# Altium footprint library 素材库.PcbLib: 24 footprints (part 1 of 2)
Each footprint in its own frame and in the unit in brackets; x right, y up, seen from the top. Pads: shape width x height; smd on the part's side, far side on the other; paste and mask are expansions set on the pad; w line width, h text height; cw(c..) or ccw(c..) is an arc to the next point about the centre after c.
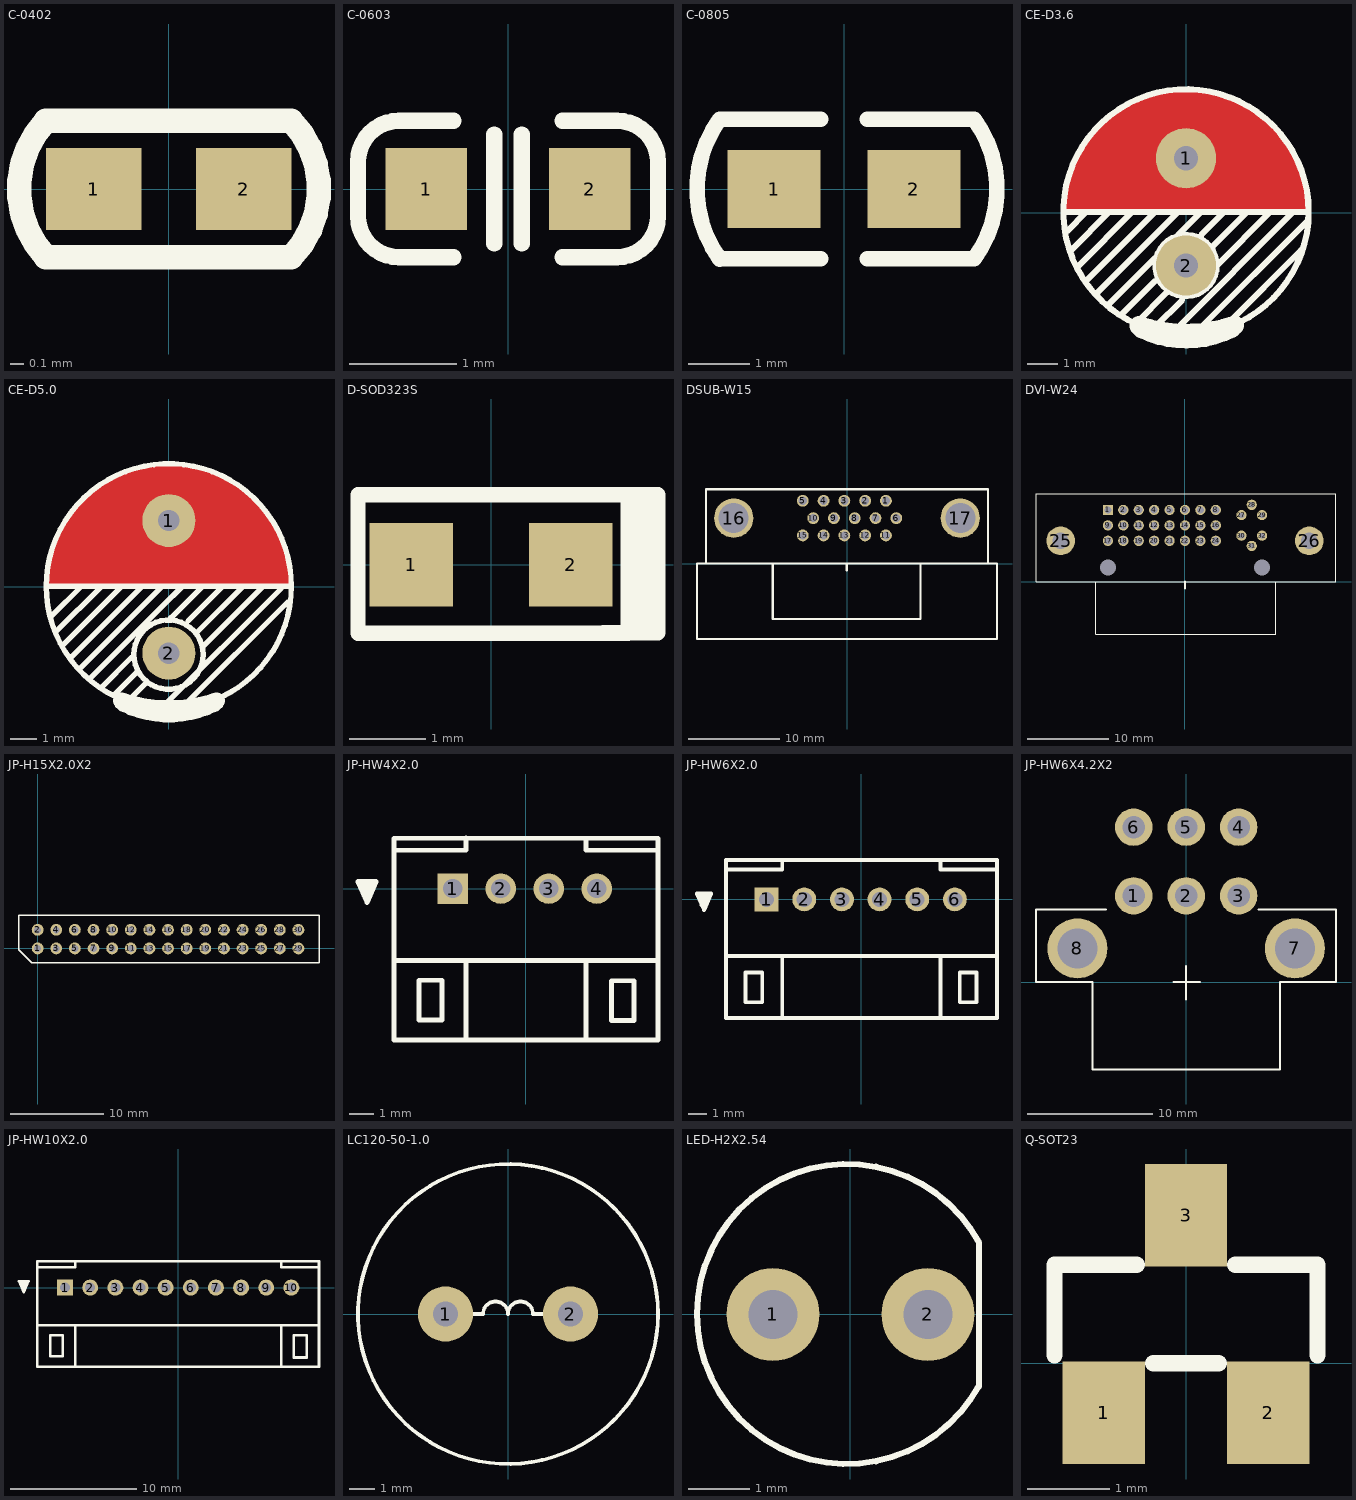
[diagram p0: the footprints below, top view; thin cyan lines are the x and y axes]

## C-0402 [mm]
pads (2):
  rect 0.7x0.6 smd: 1(-0.55,0) 2(0.55,0)
Top Overlay:
  lines w0.178: -0.9,-0.5 cw(c-0.364,0) -0.9,0.5 0.9,0.5 cw(c0.388,0) 0.9,-0.5 -0.9,-0.5

## C-0603 [mil]
pads (2):
  rect 30x30 smd: 1(-30,0) 2(30,0)
Top Overlay:
  lines w6: -20,-25 -40,-25 cw(c-40,-10) -55,-10 -55,10 cw(c-40,10) -40,25 -20,25 ; -5,-20 -5,20 ; 5,-20 5,20 ; 20,-25 40,-25 ccw(c40,-10) 55,-10 55,10 ccw(c40,10) 40,25 20,25

## C-0805 [mil]
pads (2):
  rect 60x50 smd: 1(-45,0) 2(45,0)
Top Overlay:
  lines w10: -80.04,44.95 ccw(c-17.72,0) -79.96,-45.06 ; -80,-45 -15,-45 ; -80,45 -15,45 ; 15,-45 83.58,-45 ccw(c22.58,0) 83.59,44.99 15,45

## CE-D3.6 [mm]
pads (2):
  round 2 / inner round 1.524 / far side round 1.524 hole 0.8: 1(0,1.8) 2(0,-1.756)
Top Layer:
  pour cut-out: -4.061,0.161 -4.021,0.67 -3.872,1.291 -3.627,1.881 -3.294,2.426 -2.879,2.911 -2.393,3.326 -1.848,3.66 -1.258,3.904 -0.637,4.053 0,4.104 0.636,4.053 1.258,3.904 1.848,3.66 2.392,3.326 2.878,2.911 3.293,2.426 3.627,1.881 3.871,1.291 4.02,0.67 4.06,0.161 4.056,0.161 4.056,0.014 -4.056,0.014 -4.056,0.161
Top Overlay:
  circle w0.203: c0,0.022 r4.064
  circle w0.203: c0,-1.756 r1.016
  lines w0.203: -4.064,0.022 4.064,0.022 ; -3.937,-0.613 -3.302,0.022 ; -3.81,-1.248 -2.54,0.022 ; -3.556,-1.756 -1.778,0.022 ; -3.302,-2.264 -1.016,0.022 ; -2.921,-2.645 -0.254,0.022 ; -2.54,-3.026 -1.016,-1.502 ; -2.159,-3.407 -1.016,-2.264 ; -1.651,-3.661 -0.635,-2.645 ; -1.016,-3.788 -0.127,-2.899 ; -0.381,-3.915 3.556,0.022 ; -0.254,-0.74 0.508,0.022 ; 0.381,-3.915 4.064,-0.232 ; 0.508,-0.74 1.27,0.022 ; 0.889,-1.121 2.032,0.022 ; 1.016,-1.756 2.794,0.022 ; 1.397,-3.661 3.81,-1.248
  lines w0.635: -1.559,-3.75 -1.459,-3.85 ; -1.556,-3.751 ccw(c0,0.872) 1.604,-3.734 ; -1.46,-3.849 ccw(c0.006,-0.868) 1.499,-3.836 ; 1.501,-3.835 1.601,-3.735

## CE-D5.0 [mm]
pads (2):
  round 2 / inner round 1.524 / far side round 1.524 hole 0.8: 1(0,2.5) 2(0,-2.5)
Top Layer:
  pour cut-out: -4.656,0.099 -4.622,0.608 -4.504,1.205 -4.308,1.781 -4.039,2.326 -3.701,2.832 -3.3,3.289 -2.843,3.69 -2.337,4.028 -1.792,4.297 -1.216,4.493 -0.619,4.611 -0.012,4.651 0.595,4.611 1.191,4.493 1.767,4.297 2.313,4.028 2.818,3.69 3.276,3.289 3.677,2.832 4.015,2.326 4.284,1.781 4.479,1.205 4.598,0.608 4.631,0.099 4.627,0.097 4.627,0.009 -4.651,0.009 -4.651,0.097
Top Overlay:
  circle w0.203: c0,0.022 r4.624
  circle w0.203: c-0.011,-2.555 r1.306
  lines w0.203: -4.548,0.022 4.501,0.022 ; -4.408,-1.084 -3.302,0.022 ; -4.269,-1.707 -2.54,0.022 ; -3.973,-2.173 -1.778,0.022 ; -3.677,-2.639 -1.016,0.022 ; -3.332,-3.056 -0.254,0.022 ; -2.951,-3.437 0.346,-0.14 ; -2.52,-3.768 -1.417,-2.665 ; -2.033,-4.042 -1.251,-3.261 ; -1.438,-4.21 -0.858,-3.63 ; -0.254,-0.74 0.508,0.022 ; -0.192,-4.488 4.225,-0.071 ; 0.08,-1.168 1.27,0.022 ; 0.594,-4.464 4.478,-0.58 ; 0.723,-1.287 2.032,0.022 ; 1.016,-1.756 2.794,0.022 ; 1.301,-2.233 3.556,0.022
  lines w0.635: -1.696,-4.394 ccw(c0.007,-0.978) 1.704,-4.397 ; -1.693,-4.395 -1.793,-4.295 ccw(c0.007,0.962) 1.807,-4.295 1.707,-4.395

## D-SOD323S [mm]
pads (2):
  rect 1.1x1.1 smd: 1(-1.05,0) 2(1.05,0)
Top Overlay:
  lines w0.203: 1.27,0.919 2.2,0.919 2.2,-0.898 1.482,-0.898 ; 1.816,-0.844 1.816,0.905 ; 2.01,-0.836 2.01,0.874 ; -1.752,-0.901 -1.752,0.919 1.806,0.919 1.806,-0.901 -1.752,-0.901

## DSUB-W15 [mm]
pads (17):
  round 1.3 hole 0.9: 1(4.28,6.9) 2(1.994,6.9) 3(-0.292,6.9) 4(-2.578,6.9) 5(-4.864,6.9) 6(5.423,4.995) 7(3.137,4.995) 8(0.851,4.995) 9(-1.435,4.995) 10(-3.721,4.995) 11(4.28,3.09) 12(1.994,3.09) 13(-0.292,3.09) 14(-2.578,3.09) 15(-4.864,3.09)
  round 4.318 hole 3.302 mask+1.016: 16(-12.459,4.995) 17(12.459,4.995)
Top Overlay:
  lines w0.25: -0.015,-0.732 -0.015,-0.022
  lines w0.254: -16.5,-8.3 16.5,-8.3 16.5,0 -16.5,0 -16.5,-8.3 ; -15.507,0 -15.507,8.17 15.507,8.17 15.507,0 -15.507,0 ; -8.166,-6.1 8.09,-6.1 8.09,0 -8.166,0 -8.166,-6.1
Bottom Overlay:
  region: -6.6,8.2 7.1,8.2 7.1,2 -6.6,2

## DVI-W24 [mil]
pads (34):
  rect 50x50 hole 35: 1(-375,350)
  round 50 hole 35: 2(-300,350) 3(-225,350) 4(-150,350) 5(-75,350) 6(0,350) 7(75,350) 8(150,350) 9(-375,275) 10(-300,275) 11(-225,275) 12(-150,275) 13(-75,275) 14(0,275) 15(75,275) 16(150,275) 17(-375,200) 18(-300,200) 19(-225,200) 20(-150,200) 21(-75,200) 22(0,200) 23(75,200) 24(150,200)
  round 140 hole 78.74: 25(-605,200) 26(605,200)
  round 50 / inner round 60 / far side round 60 hole 27: 27(275,325) 28(325,375) 29(375,325) 30(275,225) 31(325,175) 32(375,225)
  round 0 hole 78.74 unplated: 33(-375,70) 34(375,70)
Top Overlay:
  lines w5.51: -725,0 -725,430 735,430 735,0 -725,0
  lines w6: -433.07,0 -433.07,-255.91 440.94,-255.91 440.94,0
  lines w9.84: -0.47,-32.63 -0.47,2.65

## JP-H15X2.0X2 [mm]
pads (30):
  round 1.27 hole 0.75 mask+0.127: 1(0,0) 2(0,2) 3(2,0) 4(2,2) 5(4,0) 6(4,2) 7(6,0) 8(6,2) 9(8,0) 10(8,2) 11(10,0) 12(10,2) 13(12,0) 14(12,2) 15(14,0) 16(14,2) 17(16,0) 18(16,2) 19(18,0) 20(18,2) 21(20,0) 22(20,2) 23(22,0) 24(22,2) 25(24,0) 26(24,2) 27(26,0) 28(26,2) 29(28,0) 30(28,2)
Top Overlay:
  lines w0.14: -2,-0.134 -0.61,-1.524 30.21,-1.524 30.21,3.556 -2,3.556 -2,-0.134
Bottom Overlay:
  region: -0.9,2.8 28.8,2.8 28.8,-0.9 -0.9,-0.9
  lines w0.55: -0.895,2.705 -0.895,-0.89 28.92,-0.89 28.92,2.908 -0.847,2.908 -0.847,2.575 ; -0.851,1.002 28.858,1.002 ; 0.988,-0.822 0.988,2.807 ; 3.006,-0.807 3.006,2.822 ; 5.04,-0.836 5.04,2.793 ; 7.015,-0.822 7.015,2.807 ; 9.02,-0.807 9.02,2.822 ; 10.995,-0.807 10.995,2.822 ; 13.051,-0.807 13.051,2.822 ; 15.025,-0.821 15.025,2.808 ; 17.041,-0.821 17.041,2.808 ; 19.007,-0.835 19.007,2.794 ; 20.979,-0.821 20.979,2.808 ; 22.986,-0.83 22.986,2.799 ; 25.007,-0.83 25.007,2.799 ; 26.97,-0.834 26.97,2.795

## JP-HW4X2.0 [mm]
pads (4):
  rect 1.27x1.27 hole 0.8: 1(-3.048,0)
  round 1.27 hole 0.8: 2(-1.048,0) 3(0.952,0) 4(2.952,0)
Top Overlay:
  lines w0.203: -6.879,0.152 -6.471,0.152 ; -6.828,0.064 -6.828,0.217 ; -6.756,-0.297 -6.528,-0.297 ; -5.495,-3 5.494,-3 ; -5.491,1.6 -2.498,1.6 ; -4.748,-6.3 4.552,-6.3 ; -4.456,-3.817 -4.456,-5.477 -3.507,-5.477 -3.507,-3.818 -4.435,-3.818 ; -2.5,1.606 -2.5,2.102 ; 2.5,1.607 2.5,2.088 ; 2.517,1.6 5.5,1.6 ; 3.558,-3.838 3.558,-5.498 4.507,-5.498 4.507,-3.84 3.579,-3.84 ; -6.706,-0.203 -6.706,0.305 ; -6.706,-0.203 -6.706,0.051 -6.452,0.051 ; -6.706,-0.203 -6.452,-0.203 -6.452,0.051 ; -6.706,-0.203 -6.452,0.051 ; -6.706,0.305 -6.452,0.305 ; -6.706,0.305 -6.452,0.305 ; -6.621,-0.577 -6.242,0.305 -6.999,0.305 -6.621,-0.576 ; -6.621,-0.576 -6.621,-0.576 ; -6.621,-0.577 -6.621,-0.576 ; -6.452,0.051 -6.452,0.305 ; -6.452,0.051 -6.452,0.305 ; -5.5,-6.3 -2.5,-6.3 -2.5,-3 2.5,-3 2.5,-6.3 5.5,-6.3 5.5,2.1 -5.5,2.1 -5.5,-6.3
Bottom Overlay:
  region: -4.1,1.4 3.8,1.4 3.8,-1.4 -4.1,-1.4
  lines w0.4: -4.05,1.36 -4.05,-1.57 3.81,-1.57 3.81,1.41 -3.89,1.41
  lines w0.5: -2.053,-1.44 -2.053,1.3
  lines w0.55: -0.011,-1.44 -0.011,1.27 ; 1.945,-1.49 1.945,1.26

## JP-HW6X2.0 [mm]
pads (6):
  rect 1.27x1.27 hole 0.8: 1(-5.035,0.006)
  round 1.27 hole 0.8: 2(-3.035,0.006) 3(-1.035,0.006) 4(0.965,0.006) 5(2.965,0.006) 6(4.965,0.006)
Top Overlay:
  lines w0.203: -8.612,0.158 -8.204,0.158 ; -8.561,0.07 -8.561,0.223 ; -8.49,-0.291 -8.261,-0.291 ; -7.203,1.6 -4.202,1.6 ; -7.188,-3 7.195,-3 ; -6.735,-6.3 7.203,-6.3 ; -6.161,-3.876 -5.271,-3.876 -5.271,-5.456 -6.16,-5.456 -6.16,-3.886 ; -4.2,1.604 -4.2,2.093 ; 4.2,1.61 4.2,2.094 ; 4.208,1.6 7.196,1.6 ; 5.223,-3.88 6.114,-3.88 6.114,-5.46 5.225,-5.46 5.225,-3.89 ; -8.439,-0.197 -8.439,0.311 ; -8.439,-0.197 -8.439,0.057 -8.185,0.057 ; -8.439,-0.197 -8.185,-0.197 -8.185,0.057 ; -8.439,-0.197 -8.185,0.057 ; -8.439,0.311 -8.185,0.311 ; -8.439,0.311 -8.185,0.311 ; -8.354,-0.571 -7.975,0.311 -8.732,0.311 -8.354,-0.57 ; -8.354,-0.57 -8.354,-0.57 ; -8.354,-0.571 -8.354,-0.57 ; -8.185,0.057 -8.185,0.311 ; -8.185,0.057 -8.185,0.311 ; -7.2,-6.3 -4.2,-6.3 -4.2,-3 4.2,-3 4.2,-6.3 7.2,-6.3 7.2,2.1 -7.2,2.1 -7.2,-6.3
Bottom Overlay:
  region: -6.3,1.208 6.4,1.208 6.4,-1.7 -6.3,-1.7
  lines w0.4: -6.3,1.276 -6.3,-1.8 6.3,-1.8 6.3,1.29 -6.3,1.29 ; -4,-1.8 -4,1.181 ; -2,-1.7 -2,1.167 ; 0,-1.6 0,1.167 ; 1.9,-1.6 1.9,1.126 ; 4,-1.7 4,1.28

## JP-HW6X4.2X2 [mm]
pads (8):
  round 3 hole 1.8: 1(-4.2,6.892) 2(0,6.892) 3(4.2,6.892) 4(4.2,12.392) 5(0,12.392) 6(-4.2,12.392)
  round 4.8 hole 3.2: 7(8.7,2.692) 8(-8.7,2.692)
Top Overlay:
  lines w0.152: -6.412,5.809 -12.016,5.809 -12.016,-0.011 -7.498,-0.011 -7.498,-7.007 7.499,-7.007 7.499,-0.004 11.989,-0.004 11.989,5.789 5.769,5.789 ; -1.034,0 1.126,0 ; 0,-1.407 0,1.292

## JP-HW10X2.0 [mm]
pads (10):
  rect 1.27x1.27 hole 0.8: 1(-9,0)
  round 1.27 hole 0.8: 2(-7,0) 3(-5,0) 4(-3,0) 5(-1,0) 6(1,0) 7(3,0) 8(5,0) 9(7,0) 10(9,0)
Top Overlay:
  lines w0.203: -12.543,0.344 -12.135,0.344 ; -12.492,0.256 -12.492,0.409 ; -11.189,-3 11.193,-3 ; -11.185,1.6 -8.2,1.6 -8.2,2.085 ; -10.699,-6.305 8.701,-6.305 ; 8.2,2.092 8.2,1.6 11.184,1.6 ; -12.369,-0.011 -12.369,0.497 ; -12.369,-0.011 -12.369,0.243 -12.115,0.243 ; -12.369,-0.011 -12.115,-0.011 -12.115,0.243 ; -12.369,-0.011 -12.115,0.243 ; -12.369,0.497 -12.115,0.497 ; -12.369,0.497 -12.115,0.497 ; -12.285,-0.385 -11.906,0.497 -12.663,0.497 -12.284,-0.384 ; -12.285,-0.384 -12.284,-0.384 ; -12.285,-0.385 -12.285,-0.384 ; -12.115,0.243 -12.115,0.497 ; -12.115,0.243 -12.115,0.497 ; -11.2,-6.305 -8.2,-6.305 -8.2,-3.005 8.2,-3.005 8.2,-6.305 11.2,-6.305 11.2,2.1 -11.2,2.1 -11.2,-6.305 ; -10.185,-5.477 -9.185,-5.477 -9.185,-3.791 -10.185,-3.791 -10.185,-5.477 ; 9.184,-5.561 10.216,-5.561 10.216,-3.783 9.184,-3.783 9.184,-5.561
Bottom Overlay:
  region: -10.385,1.192 9.937,1.192 9.937,-1.505 -10.385,-1.505
  lines w0.5: -10.327,1.231 -10.327,-1.615 10.191,-1.615 10.191,1.269 -10.327,1.269 ; -7.999,-1.51 -7.999,1.135 ; -6.012,-1.562 -6.012,1.154 ; -3.998,-1.458 -3.998,1.078 ; -1.984,-1.536 -1.984,1.25 ; 0.004,-1.458 0.004,1.211 ; 2.018,-1.562 2.018,1.242 ; 4.032,-1.51 4.032,1.29 ; 6.046,-1.562 6.046,1.154

## LC120-50-1.0 [mm]
pads (2):
  round 2.2 hole 1: 1(-2.5,0) 2(2.5,0)
Top Overlay:
  circle w0.15: c0,0 r6
  lines w0.15: -1.5,0 -1,0 cw(c-0.5,0) 0,0 cw(c0.5,0) 1,0 1.5,0

## LED-H2X2.54 [mil]
pads (2):
  round 60 hole 31.5: 1(-50,0) 2(50,0)
Top Overlay:
  lines w4: 82.94,-46.56 82.94,45.16 ; 83.01,-45.61 cw(c-2.2,0.27) 83.01,46.15

## Q-SOT23 [mm]
pads (3):
  rect 1x1.25 smd: 1(-1,-0.6) 2(1,-0.6) 3(0,1.8)
Top Overlay:
  lines w0.2: -1.6,0.1 -1.6,1.2 -0.6,1.2 ; -0.4,0 0.4,0 ; 0.6,1.2 1.6,1.2 1.6,0.1